# Altium schematic symbol library SCH - MCU - ATTINY - MICROCHIP ATTINY5-MAHR UDFN8.SchLib: 1 symbol
Pins are listed as number, name and electrical type; pins without a type are passive.

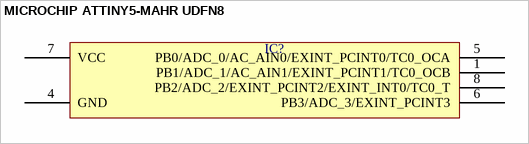
[diagram p0: symbol MICROCHIP ATTINY5-MAHR UDFN8]

## MICROCHIP ATTINY5-MAHR UDFN8
designator IC?  (value not drawn)
pins: 1 PB1/ADC_1/AC_AIN1/EXINT_PCINT1/TC0_OCB, 4 GND, 5 PB0/ADC_0/AC_AIN0/EXINT_PCINT0/TC0_OCA, 6 PB3/ADC_3/EXINT_PCINT3, 7 VCC, 8 PB2/ADC_2/EXINT_PCINT2/EXINT_INT0/TC0_T